# EAGLE library part ASL_BLUETOOTH_MODULE (library asl_bluetooth_module)
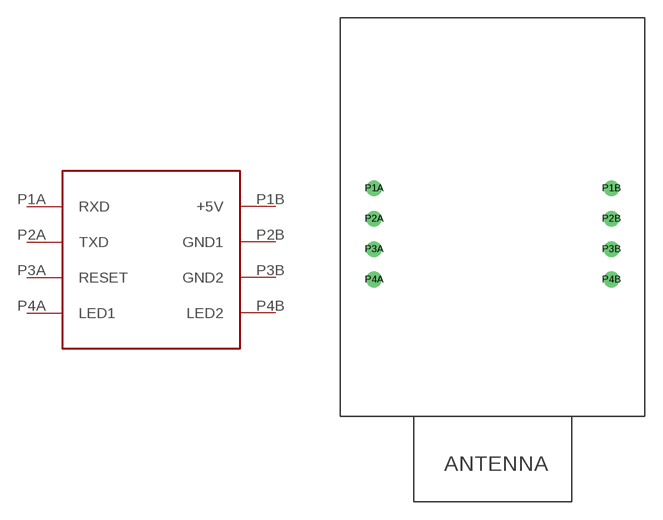
[diagram p0: symbol with the pads of BLUETOOTH_MODULE; footprint BLUETOOTH_MODULE]

Designator prefix -

## ASL_BLUETOOTH_MODULE  [BLUETOOTH_MODULE]
P1A  RXD
P1B  +5V
P2A  TXD
P2B  GND1
P3A  RESET
P3B  GND2
P4A  LED1
P4B  LED2

## Footprint BLUETOOTH_MODULE (pad centres in mm)
drill 0.8: P1A 2.794,19.05; P1B 22.606,19.05; P2A 2.794,16.51; P2B 22.606,16.51; P3A 2.794,13.97; P3B 22.606,13.97; P4A 2.794,11.43; P4B 22.606,11.43